# EAGLE library part SN74CB3Q3257PW (library SamacSys_Parts)
4-Bit One-of-2 FET Multiplexer/Demultiplexer 2.5-V/3.3-V Low-Voltage, High-Bandwidth Bus Switch Source: Datasheet <http://www.ti.com/lit/gpn/sn74cb3q3257>
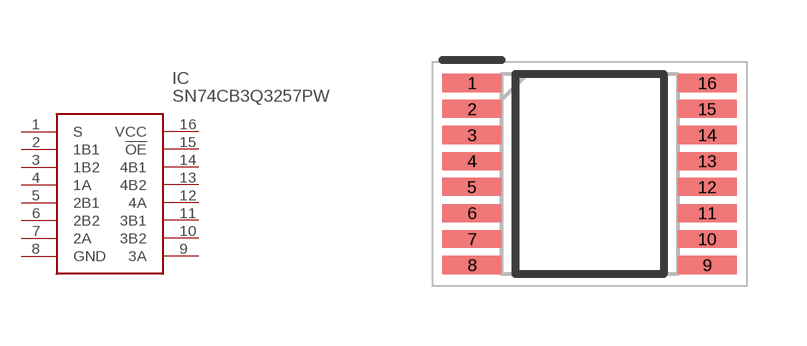
[diagram p234: symbol with the pads of SOP65P640X120-16N; footprint SOP65P640X120-16N]

Designator prefix IC

## SN74CB3Q3257PW (DESCRIPTION: 4-Bit One-of-2 FET Multiplexer/Demultiplexer 2.5-V/3.3-V Low-Voltage, High-Bandwidth Bus Switch; HEIGHT: 1.2mm; MANUFACTURER_NAME: Texas Instruments; MANUFACTURER_PART_NUMBER: SN74CB3Q3257PW; MOUSER_PART_NUMBER: 595-SN74CB3Q3257PW; MOUSER_PRICE-STOCK: https://www.mouser.co.uk/ProductDetail/Texas-Instruments/SN74CB3Q3257PW?qs=mE33ZKBHyE4u0jb5ARCUxA%3D%3D)  [SOP65P640X120-16N]
1  S
2  1B1
3  1B2
4  1A
5  2B1
6  2B2
7  2A
8  GND
9  3A
10  3B2
11  3B1
12  4A
13  4B2
14  4B1
15  !OE
16  VCC

## Footprint SOP65P640X120-16N (pad centres in mm)
PW0016A
smd 1.475 x 0.45: 1 -2.938,2.275; 2 -2.938,1.625; 3 -2.938,0.975; 4 -2.938,0.325; 5 -2.938,-0.325; 6 -2.938,-0.975; 7 -2.938,-1.625; 8 -2.938,-2.275; 9 2.938,-2.275; 10 2.938,-1.625; 11 2.938,-0.975; 12 2.938,-0.325; 13 2.938,0.325; 14 2.938,0.975; 15 2.938,1.625; 16 2.938,2.275